# Altium schematic symbol library Schlib_Kingbright.SchLib: 17 symbols
Pins are listed as number, name and electrical type; pins without a type are passive.

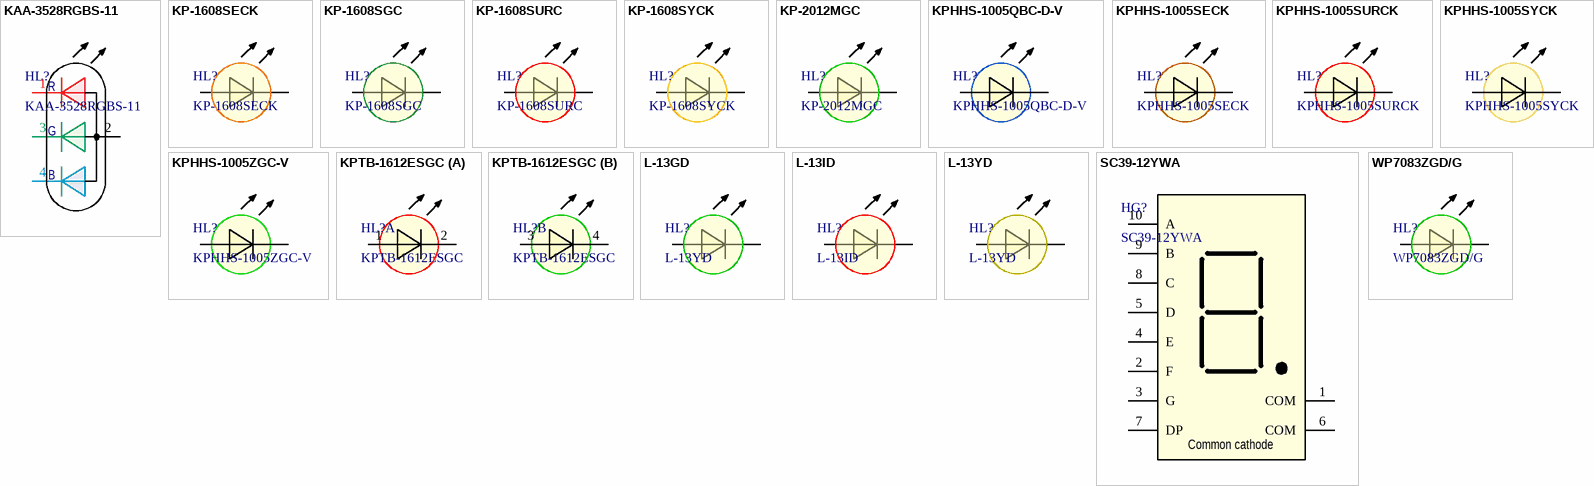
[diagram p0: symbols KAA-3528RGBS-11 to WP7083ZGD/G]

## KAA-3528RGBS-11
designator HL?
LED RGB DIFFUSED SMD; Manufacturer: Kingbright Elec. Co., Ltd(KGB); Part Number: KAA-3528RGBS-11; Package: 3528
footprint RGB3528 (RGB led 3528 package)
pins: 1 R, 2, 3 G, 4 B

## KP-1608SECK
designator HL?
Super bright orange led (package case 0603); Manufacturer: Kingbright Company LLC.; Designator: HL*; Package: 0603; Part Number: KP-1608SECK; Color: Super bright orange
footprint LED0603O (LED 0603 Orange)
pins: 1, 2

## KP-1608SGC
designator HL?
Super bright green led (package case 0603); Manufacturer: Kingbright Company LLC.; Designator: HL*; Package: 0603; Part Number: KP-1608SGC; Color: Super bright green
footprint LED0603G (LED 0603 Green)
pins: 1, 2

## KP-1608SURC
designator HL?
Hyper red led (package case 0603); Manufacturer: Kingbright Company LLC.; Designator: HL*; Package: 0603; Part Number: KP-1608SURC; Color: Hyper red
footprint LED0603R (LED 0603 Red)
pins: 1, 2

## KP-1608SYCK
designator HL?
Super bright yellow led (package case 0603); Manufacturer: Kingbright Company LLC.; Designator: HL*; Package: 0603; Part Number: KP-1608SYCK; Color: Super bright yellow
footprint LED0603Y (LED 0603 Yellow)
pins: 1, 2

## KP-2012MGC
designator HL?
Green led 0805; Manufacturer: Kingbright Company LLC.; Designator: HL*; Wavelength: 574nm; Forward Voltage: 2.5V; Current: 10mA; Package: 0805; Part Number: KP-2012MGC; Color: Green
footprint LED0805G (LED 0805 Green)
pins: 1, 2

## KPHHS-1005QBC-D-V
designator HL?
Blue led (package case 0402); Manufacturer: Kingbright Company LLC.; Designator: HL*; Forward Current: 20 mA; Forward Voltage: 3.3V; Wavelength: 465 nm; Package: 0402; Part Number: KPHHS-1005QBC-D-V; Color: Blue
footprint LED0402B (LED 0402 Blue)
pins: 1, 2

## KPHHS-1005SECK
designator HL?
Orange led (package case 0402); Manufacturer: Kingbright Company LLC.; Designator: HL*; Forward Current: 30 mA; Forward Voltage: 2.1V; Wavelength: 601 nm; Package: 0402; Part Number: KPHHS-1005SECK; Color: Orange
footprint LED0402O (LED 0402 Orange)
pins: 1, 2

## KPHHS-1005SURCK
designator HL?
Red led (package case 0402); Manufacturer: Kingbright Company LLC.; Designator: HL*; Forward Current: 20 mA; Forward Voltage: 1.95V; Wavelength: 630 nm; Package: 0402; Part Number: KPHHS-1005SURCK; Color: Red
footprint LED0402R (LED 0402 Red)
pins: 1, 2

## KPHHS-1005SYCK
designator HL?
Yellow led (package case 0402); Manufacturer: Kingbright Company LLC.; Designator: HL*; Forward Current: 20 mA; Forward Voltage: 2.0V; Wavelength: 590 nm; Package: 0402; Part Number: KPHHS-1005SYCK; Color: Yellow
footprint LED0402Y (LED 0402 Yellow)
pins: 1, 2

## KPHHS-1005ZGC-V
designator HL?
Green led (package case 0402); Manufacturer: Kingbright Company LLC.; Designator: HL*; Forward Current: 20 mA; Forward Voltage: 3.3V; Wavelength: 515 nm; Package: 0402; Part Number: KPHHS-1005ZGC-V; Color: Green
footprint LED0402G525 (LED 0402 Green 525nm)
pins: 1, 2

## KPTB-1612ESGC
designator HL?
Green led 0805; Manufacturer: Kingbright Company LLC.; Designator: HL*; Wavelength: Green = 568nm, Red = 617 nm; Forward Voltage: Green = 2.2V, Red = 2V; Current: 10mA; Package: 1612; Part Number: KPTB-1612ESGC
footprint KPTB-1612 (Bi-Color led, KPTB-1612)
part A pins: 1, 2
part B pins: 3, 4

## L-13GD
designator HL?, comment L-13YD
Green flat top led; Manufacturer: Kingbright Company LLC.; Designator: HL*; Package: Flat top, 2.54mm; Part Number: L-13YD; Color: Green
footprint L13G_Short (Led flat top, 2.54mm, short pin)
footprint L13G_Medium (Led flat top, 2.54mm, medium pin)
footprint L13G_long (Led flat top, 2.54mm, long pin)
footprint L13G_Long_Angle90 (Led flat top, 2.54mm, medium pin, right angle)
footprint L13G_Long_Angle270 (Led flat top, 2.54mm, medium pin, right angle)
footprint L13G_Medium_Angle90 (Led flat top, 2.54mm, medium pin, right angle)
footprint L13G_Medium_Angle270 (Led flat top, 2.54mm, medium pin, right angle)
pins: 1, 2

## L-13ID
designator HL?
Hyper red flat top led; Manufacturer: Kingbright Company LLC.; Designator: HL*; Package: Flat top, 2.54mm; Part Number: L-13ID; Color: Hyper red
footprint L13R_Short (Led flat top, 2.54mm, short pin)
footprint L13R_Medium (Led flat top, 2.54mm, medium pin)
footprint L13R_long (Led flat top, 2.54mm, long pin)
footprint L13R_Long_Angle90 (Led flat top, 2.54mm, medium pin, right angle)
footprint L13R_Long_Angle270 (Led flat top, 2.54mm, medium pin, right angle)
footprint L13R_Medium_Angle90 (Led flat top, 2.54mm, medium pin, right angle)
footprint L13R_Medium_Angle270 (Led flat top, 2.54mm, medium pin, right angle)
pins: 1, 2

## L-13YD
designator HL?
Yellow flat top led; Manufacturer: Kingbright Company LLC.; Designator: HL*; Package: Flat top, 2.54mm; Part Number: L-13YD; Color: Yellow
footprint L13Y_Short (Led flat top, 2.54mm, short pin)
footprint L13Y_Medium (Led flat top, 2.54mm, medium pin)
footprint L13Y_long (Led flat top, 2.54mm, long pin)
pins: 1, 2

## SC39-12YWA
designator HG?
7-Segment Numeric Display, Yellow; Manufacturer: Kingbright; Wavelength: 590nm; Common Pin: Common Cathode; Voltage - Forward: 2.1V; Current - Test: 20mA; Part Number: SC39-12YWA
footprint SC39-12YWA
pins: 1 COM, 2 F, 3 G, 4 E, 5 D, 6 COM, 7 DP, 8 C, 9 B, 10 A
text: Common cathode

## WP7083ZGD/G
designator HL?
Green led 5mm lens; Manufacturer: Kingbright Company LLC.; Designator: HL*; Wavelength: 520nm; Forward Voltage: 3.2V; Current: 20mA; Package: 2.54mm; Part Number: WP7083ZGD/G; Color: Green
footprint WP7083 (LED 5mm Green)
pins: 1, 2